# EAGLE library part 750315126 (library WE-FLYLT)
WE-FLYLT Flyback Transformers for Linear Technology Characteristics Characteristics Low leakage inductance High saturation current for low-power, DC/DC transformers Self-shielding and space efficient Functional insulation Isolation voltage: Up to 1875VAC at 1 second Lead free and RoHS compliant Operating temp: -40°C to 125°C Package sizes: EP7, EP10, EP13 and ETD34 Designed to meet IEC/UL/EN60950-1 Applications Industrial & medical power supplies Isolated auxiliary/housekeeping power supplies Isolated DC/DC supplies Home automation <https://www.we-online.com/catalog/media/o718711v209%20family-WE-UtFLYLT.jpg> Details see: www.we-online.com/catalog/WE-FLYLT <www.we-online.com/catalog/WE-FLYLT/?utm_source=eagle_model&utm_medium=description_link&utm_campaign=eisos_eagle> Created by Ella Wu 2022-11-17 2022 (C) Wurth Elektronik
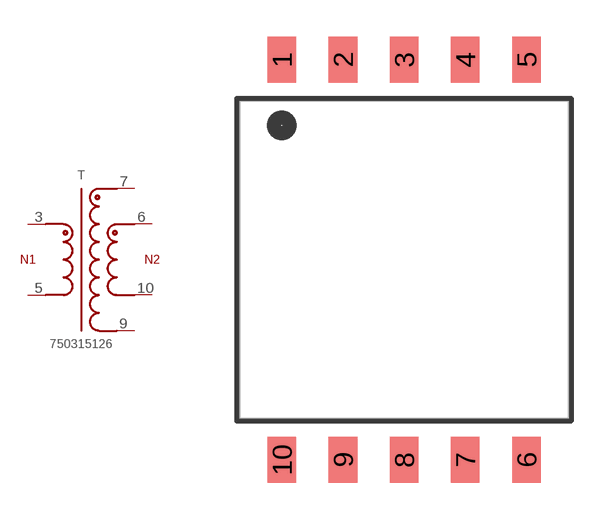
[diagram p11: symbol with the pads of WE-FLYLT_EP13_5465; footprint WE-FLYLT_EP13_5465]

Designator prefix T

## 750315126 (DATASHEET-URL: https://www.we-online.com/redexpert/spec/750315126?ae; IC-REFERENCE: LT8304; IOUT1: 1250mA; ISAT: 3.8A; L: 40uH; LS: 1uH; MOUNT: SMT; N: 2:1; PART-NUMBER: 750315126; SIZE: EP13; VALUE: 750315126; VIN: 36 - 72 V (DC); VOUT1: 12V; VT: 1500V (AC))  [WE-FLYLT_EP13_5465]
3  3  pas
5  5  pas
6  6  pas
7  7  pas
9  9  pas
10  10  pas

## Footprint WE-FLYLT_EP13_5465 (pad centres in mm)
WE-FLYLT Flyback Transformers for Linear Technology Size: EP13,SMT,10pins Bobbin: 070-5465
smd 1.17 x 1.88: 1 -5,8.18; 2 -2.5,8.18; 3 0,8.18; 4 2.5,8.18; 5 5,8.18; 6 5,-8.18; 7 2.5,-8.18; 8 0,-8.18; 9 -2.5,-8.18; 10 -5,-8.18